# Altium schematic symbol library MCP4251-503E_SL.Schlib: 1 symbol
Pins are listed as number, name and electrical type; pins without a type are passive.

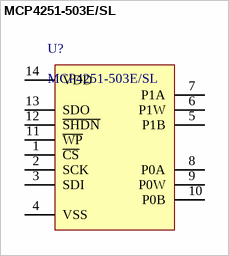
[diagram p0: symbol MCP4251-503E/SL]

## MCP4251-503E/SL
designator U?
Digital Potentiometer 50k Ohm 2 Circuit 257 Taps SPI Interface 14-SOIC
pins: 1 ~{CS}, 2 SCK, 3 SDI, 4 VSS, 5 P1B, 6 P1W, 7 P1A, 8 P0A, 9 P0W, 10 P0B, 11 ~{WP}, 12 ~{SHDN}, 13 SDO, 14 VDD